# EAGLE library part SMKDSP_1,5/14 (library con-phoenix-smkdsp)
Printklemme, Nennstrom: 17,5 A, Bemessungsspannung: 250 V, Raster: 5,0 mm Source: http://eshop.phoenixcontact.de .. 1733415.pdf
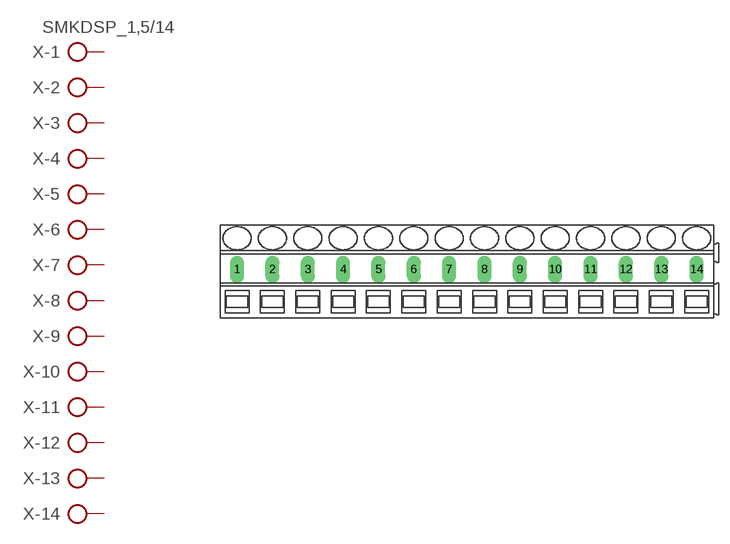
[diagram p8: symbol with the pads of SMKDSP_1,5/14; footprint SMKDSP_1,5/14]

Designator prefix X; gates -1=KLV -2=KL -3=KL -4=KL -5=KL -6=KL -7=KL -8=KL -9=KL -10=KL -11=KL -12=KL -13=KL -14=KL

## SMKDSP_1,5/14  [SMKDSP_1,5/14]
1  -1:KL  pas
2  -2:KL  pas
3  -3:KL  pas
4  -4:KL  pas
5  -5:KL  pas
6  -6:KL  pas
7  -7:KL  pas
8  -8:KL  pas
9  -9:KL  pas
10  -10:KL  pas
11  -11:KL  pas
12  -12:KL  pas
13  -13:KL  pas
14  -14:KL  pas

## Footprint SMKDSP_1,5/14 (pad centres in mm)
Printklemme, Nennstrom: 17,5 A, Bemessungsspannung: 250 V, Raster: 5,0 mm Source: http://eshop.phoenixcontact.de .. 1733415.pdf
drill 1.3 pad 1.676 long: 1 -2.5,0; 2 2.5,0; 3 7.5,0; 4 12.5,0; 5 17.5,0; 6 22.5,0; 7 27.5,0; 8 32.5,0; 9 37.5,0; 10 42.5,0; 11 47.5,0; 12 52.5,0; 13 57.5,0; 14 62.5,0